# EAGLE library part MAX4528CSA (library MAX4528CSA)
Check prices <https://pricing.snapeda.com/parts/MAX4528CSA%2B/Maxim%20Integrated/view-part?ref=eda>
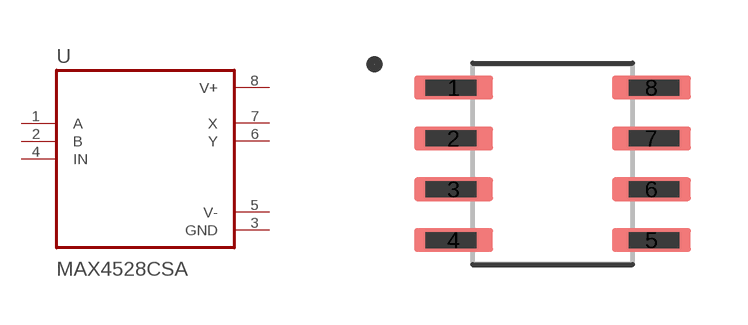
[diagram p0: symbol with the pads of SOIC127P600X175-8N; footprint SOIC127P600X175-8N]

Designator prefix U

## MAX4528CSA (AVAILABILITY: Warning; DESCRIPTION: 2 Circuit IC Switch 2:1 110Ohm 8-SOIC; MF: Maxim Integrated; MP: MAX4528CSA+; PACKAGE: SOIC-8 Maxim; PRICE: None; PURCHASE-URL: https://pricing.snapeda.com/search/part/MAX4528CSA+/?ref=eda)  [SOIC127P600X175-8N]
1  A  in
2  B  in
3  GND  pwr
4  IN  in
5  V-  pwr
6  Y  out
7  X  out
8  V+  pwr

## Footprint SOIC127P600X175-8N (pad centres in mm)
smd 1.97 x 0.59: 1 -2.475,1.905; 2 -2.475,0.635; 3 -2.475,-0.635; 4 -2.475,-1.905; 5 2.475,-1.905; 6 2.475,-0.635; 7 2.475,0.635; 8 2.475,1.905